# EAGLE library part OLIMEX_CONNECTORS_SATA-PWA-07 (library A10-A20-OLINUXINO-MICRO-4GB_Rev_D)
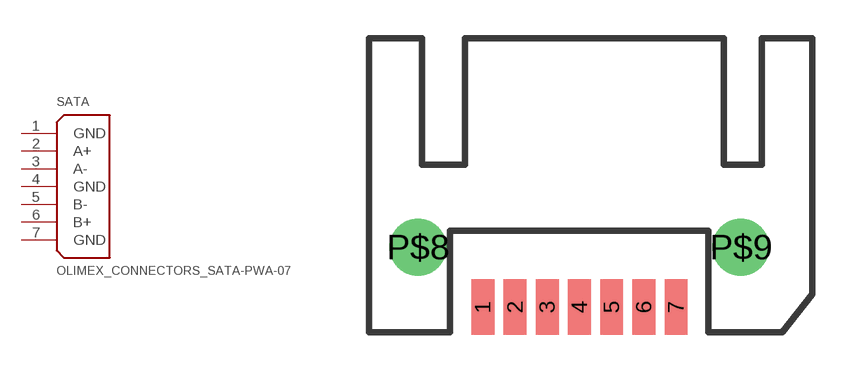
[diagram p5: symbol with the pads of OLIMEX_CONNECTORS_SATA-PWA-07; footprint OLIMEX_CONNECTORS_SATA-PWA-07]

Designator prefix SATA

## OLIMEX_CONNECTORS_SATA-PWA-07  [OLIMEX_CONNECTORS_SATA-PWA-07]
1  GND  pwr
2  A+
3  A-
4  GND  pwr
5  B-
6  B+
7  GND  pwr

## Footprint OLIMEX_CONNECTORS_SATA-PWA-07 (pad centres in mm)
smd 0.9 x 2.2: 1 4.5,1; 2 5.77,1; 3 7.04,1; 4 8.31,1; 5 9.58,1; 6 10.85,1; 7 12.12,1
drill 1.5: P$8 1.94,3.36; P$9 14.68,3.36